# Altium footprint library Terminal.PcbLib: 2 footprints
Each footprint in its own frame and in the unit in brackets; x right, y up, seen from the top. Pads: shape width x height; smd on the part's side, far side on the other; paste and mask are expansions set on the pad; w line width, h text height; cw(c..) or ccw(c..) is an arc to the next point about the centre after c.
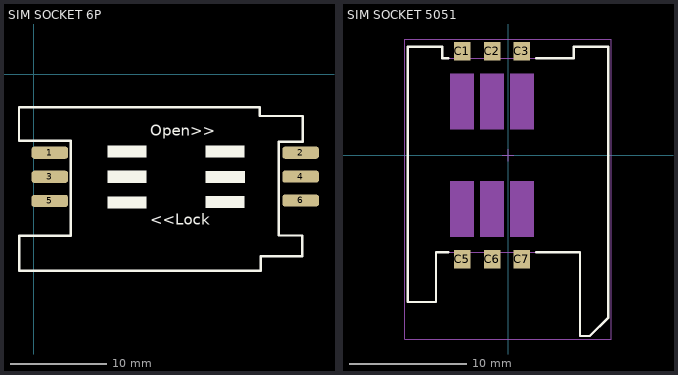
[diagram p0: the footprints below, top view; thin cyan lines are the x and y axes]

## SIM SOCKET 6P [mil]
pads (6):
  rrect50% 150x50 smd: 1(65,-320) 2(1088.62,-320) 3(65,-418.43) 4(1088.62,-417.5) 5(65,-516.85) 6(1088.62,-515)
Top Overlay:
  rectangle: 300,-340 460,-290
  rectangle: 299.84,-443.31 459.84,-393.31
  rectangle: 299.84,-548.03 459.84,-498.03
  rectangle: 700,-340 860,-290
  rectangle: 700.79,-444.49 860.79,-394.49
  rectangle: 700,-545.67 860,-495.67
  lines w10: -61.02,-271.26 150,-271.26 150,-659.06 -60.63,-659.06 -60.63,-801.57 925.2,-801.57 925.2,-742.91 1095.28,-742.91 1095.28,-657.87 1000,-657.87 1000,-274.8 1097.24,-274.8 1097.24,-170.08 921.26,-170.08 921.26,-134.65 -61.02,-134.65 -61.02,-271.26
  text "Open>>" at 475,-250 h45
  text "<<Lock" at 475,-615 h45
3D body "User Library-SIM5060-6-0-26-01-A.STEP": height 102.97, standoff -26.96, extent -66.14,-806.69 1100.79,-129.53

## SIM SOCKET 5051 [mm]
pads (6):
  rect 1.4x1.6 smd: C1(-3.9,8.85) C2(-1.36,8.85) C3(1.18,8.85) C5(-3.9,-8.85) C6(-1.36,-8.85) C7(1.18,-8.85)
Top Overlay:
  lines w0.2: -5.1,-8.25 -6.13,-8.25 -6.13,-12.5 -8.55,-12.5 -8.55,9.25 -5.6,9.25 -5.6,8.25 -5.1,8.25 ; 2.4,-8.25 6.13,-8.25 6.13,-15.4 6.97,-15.4 8.55,-13.82 8.55,9.25 5.6,9.25 5.6,8.25 2.4,8.25
Mechanical 13:
  lines w0.1: -8.55,-12.5 -8.55,9.25 -5.6,9.25 -5.6,8.25 5.6,8.25 5.6,9.25 8.55,9.25 8.55,-13.82 6.97,-15.4 6.13,-15.4 6.13,-8.25 -6.13,-8.25 -6.13,-12.5 -8.55,-12.5
Mechanical 15:
  region: 2.18,-6.95 0.18,-6.95 0.18,-2.2 2.18,-2.2
  region: -0.36,2.2 -2.36,2.2 -2.36,6.95 -0.36,6.95
  region: -0.36,-6.95 -2.36,-6.95 -2.36,-2.2 -0.36,-2.2
  region: 2.18,2.2 0.18,2.2 0.18,6.95 2.18,6.95
  region: -2.9,-6.95 -4.9,-6.95 -4.9,-2.2 -2.9,-2.2
  region: -2.9,2.2 -4.9,2.2 -4.9,6.95 -2.9,6.95
  lines w0.05: -8.8,-15.65 8.8,-15.65 8.8,9.9 -8.8,9.9 -8.8,-15.65
  lines w0.1: -0.5,0 0.5,0 ; 0,-0.5 0,0.5
3D body "473880001, SIM, Assembly.STEP": height 1.95, standoff -0.05, extent -9.083,-15.614 9.017,9.906